# Altium schematic symbol library Resistors-PTH-250mW.SchLib: 10 symbols
Pins are listed as number, name and electrical type; pins without a type are passive.

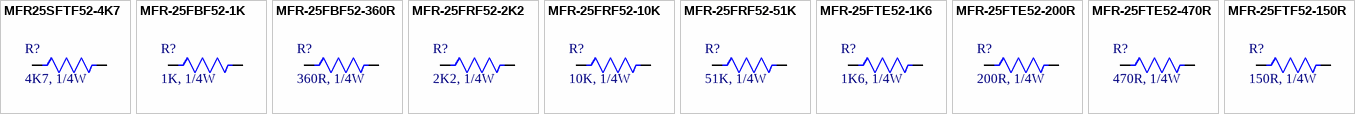
[diagram p0: symbols MFR25SFTF52-4K7 to MFR-25FTF52-150R]

## MFR25SFTF52-4K7
designator R?, comment 4K7, 1/4W
RES 4.7K OHM 1% 1/4W AXIAL; Manufacturer: Yageo; Manufacturer Part Number: MFR25SFTF52-4K7; Supplier: Digikey; Supplier Part Number: 13-MFR25SFTF52-4K7CT-ND; RoHS: Yes; Category: Through-Hole Resistors; Stock: 13558; Pricing: 1=0.1, 10=0.071, 25=0.052, 50=0.0402, 100=0.0273, 250=0.02244, 500=0.01784, 1000=0.01267 (USD); ComponentLink1URL: https://datasheet.ciiva.com:443/pdfs/VipMasterIC/IC/YAGO/YAGO-S-A0009358480/YAGO-S-A0009358480-1.pdf?src-supplier=IHS+Markit; ComponentLink1Description: https://datasheet.ciiva.com:443/pdfs/VipMasterIC/IC/YAGO/YAGO-S-A0009358480/YAGO-S-A0009358480-1.pdf?src-supplier=IHS+Markit; ComponentLink2URL: https://www.yageo.com/upload/media/product/products/datasheet/lr/Yageo_LR_MFR_1.pdf?src-supplier=Digikey; ComponentLink2Description: https://www.yageo.com/upload/media/product/products/datasheet/lr/Yageo_LR_MFR_1.pdf?src-supplier=Digikey; Value: 4k7
footprint RES-4K7-0W250
pins: 1, 2

## MFR-25FBF52-1K
designator R?, comment 1K, 1/4W
RES 1K OHM 1% 1/4W AXIAL; Manufacturer: Yageo; Manufacturer Part Number: MFR-25FBF52-1K; Power: 250mW; Value: 1kR; Temperature Coefficient: 100ppm/°C; Working Voltage: 250V; Rated Temperature: 70°C; Lead Diameter: 0.55mm; Lead Length: 28mm; Package Diameter: 2.4mm; Package Length: 6.3mm; Supplier: Digikey; Supplier Part Number: 1.00KXBK-ND; RoHS: Yes; Category: Through-Hole Resistors; Stock: 60605; Pricing: 1=0.1, 10=0.077, 25=0.056, 50=0.0436, 100=0.0296, 250=0.02428, 500=0.01928, 1000=0.01369, 5000=0.01058 (USD); Mounting Technology: Through Hole; Pins: 2; Package Shape: Tubular; Terminal Finish: Tin; Min Operating Temperature: -55°C; Max Operating Temperature: 155°C; Tolerance: 1%; JESD-609 Code: e3; Resistor Type: FIXED RESISTOR; Construction: Cylindrical; Package Style: AxialMeter; Packaging: Bulk; Technology: METAL FILM; Termination: Wire; Reach SVHC Compliant: Yes; RoHS Compliant: Yes; ComponentLink1URL: https://datasheet.ciiva.com:443/pdfs/VipMasterIC/IC/YAGO/YAGOS02704/YAGOS02704-1.pdf?src-supplier=IHS+Markit; ComponentLink1Description: https://datasheet.ciiva.com:443/pdfs/VipMasterIC/IC/YAGO/YAGOS02704/YAGOS02704-1.pdf?src-supplier=IHS+Markit; ComponentLink2URL: https://datasheet.ciiva.com/25646/yageolr-mfr-2013-25646206.pdf?src-supplier=Digikey; ComponentLink2Description: https://datasheet.ciiva.com/25646/yageolr-mfr-2013-25646206.pdf?src-supplier=Digikey
footprint RES-1K-0W250
pins: 1, 2

## MFR-25FBF52-360R
designator R?, comment 360R, 1/4W
RES 360 OHM 1% 1/4W AXIAL; Manufacturer: Yageo; Manufacturer Part Number: MFR-25FBF52-360R; Power: 250mW; Temperature Coefficient: -100100ppm/°C; Working Voltage: 250V; Lead Diameter: 0.55mm; Lead Length: 28mm; Package Diameter: 2.4mm; Package Length: 6.3mm; Supplier: DigiKey; Supplier Part Number: 13-MFR-25FBF52-360R-ND; Category: Through-Hole Resistors; Stock: 9990; Pricing: 1=0.1, 10=0.077, 25=0.056, 50=0.0436, 100=0.0296, 250=0.02428, 500=0.01928, 1000=0.01369, 5000=0.01058 (USD); Pins: 2; Package Shape: Cylindrical; Terminal Finish: Tin; Min Operating Temperature: -55°C; Max Operating Temperature: 155°C; Tolerance: 1%; JESD-609 Code: e3; Resistor Type: FIXED RESISTOR; Construction: Cylindrical; Package Style: AxialMeter; Packaging: Bulk; Value: 360R; Series: MFR; Technology: METAL FILM; Reach SVHC Compliant: Yes; RoHS Compliant: Yes; ComponentLink1URL: https://datasheet.ciiva.com:443/pdfs/VipMasterIC/IC/YAGO/YAGOS02172/YAGOS02172-1.pdf?src-supplier=IHS+Markit; ComponentLink1Description: https://datasheet.ciiva.com:443/pdfs/VipMasterIC/IC/YAGO/YAGOS02172/YAGOS02172-1.pdf?src-supplier=IHS+Markit; ComponentLink2URL: https://www.yageo.com/upload/media/product/products/datasheet/lr/Yageo_LR_MFR_1.pdf?src-supplier=Digikey; ComponentLink2Description: https://www.yageo.com/upload/media/product/products/datasheet/lr/Yageo_LR_MFR_1.pdf?src-supplier=Digikey; ComponentLink3URL: https://datasheet.octopart.com/MFR-25FBF52-360R-Yageo-datasheet-28066692.pdf; ComponentLink3Description: https://datasheet.octopart.com/MFR-25FBF52-360R-Yageo-datasheet-28066692.pdf
footprint RES-360R-0W250
pins: 1, 2

## MFR-25FRF52-2K2
designator R?, comment 2K2, 1/4W
RES 2.2K OHM 1% 1/4W AXIAL; Manufacturer: Yageo; Manufacturer Part Number: MFR-25FRF52-2K2; Supplier: Digikey; Supplier Part Number: 13-MFR-25FRF52-2K2CT-ND; RoHS: Yes; Category: Through-Hole Resistors; Stock: 174; Pricing: 1=0.1, 10=0.077, 25=0.056, 50=0.0436, 100=0.0296, 250=0.02428, 500=0.01928, 1000=0.01369 (USD); ComponentLink1URL: https://datasheet.ciiva.com:443/pdfs/VipMasterIC/IC/YAGO/YAGO-S-A0009358480/YAGO-S-A0009358480-1.pdf?src-supplier=IHS+Markit; ComponentLink1Description: https://datasheet.ciiva.com:443/pdfs/VipMasterIC/IC/YAGO/YAGO-S-A0009358480/YAGO-S-A0009358480-1.pdf?src-supplier=IHS+Markit; ComponentLink2URL: http://www.mouser.com/ds/2/447/Yageo%20LR_MFR_2013-467719.pdf?src-supplier=Mouser; ComponentLink2Description: http://www.mouser.com/ds/2/447/Yageo%20LR_MFR_2013-467719.pdf?src-supplier=Mouser; ComponentLink3URL: https://www.yageo.com/upload/media/product/products/datasheet/lr/Yageo_LR_MFR_1.pdf?src-supplier=Digikey; ComponentLink3Description: https://www.yageo.com/upload/media/product/products/datasheet/lr/Yageo_LR_MFR_1.pdf?src-supplier=Digikey; Value: 2k2
footprint RES-2K2-0W250
pins: 1, 2

## MFR-25FRF52-10K
designator R?, comment 10K, 1/4W
RES 10K OHM 1% 1/4W AXIAL; Manufacturer: Yageo; Manufacturer Part Number: MFR-25FRF52-10K; Power: 250mW; Rated Temperature: 70°C; Value: 10kR; Temperature Coefficient: 100ppm/°C; Working Voltage: 250V; Lead Diameter: 0.55mm; Lead Length: 28mm; Package Diameter: 2.4mm; Package Length: 6.3mm; Supplier: Digikey; Supplier Part Number: 13-MFR-25FRF52-10KCT-ND; RoHS: Yes; Category: Through-Hole Resistors; Stock: 93439; Pricing: 1=0.1, 10=0.077, 25=0.056, 50=0.0436, 100=0.0296, 250=0.02428, 500=0.01928, 1000=0.01369 (USD); Mounting Technology: Through Hole; Pins: 2; Package Shape: Tubular; Terminal Finish: Tin; Min Operating Temperature: -55°C; Max Operating Temperature: 155°C; Tolerance: 1%; JESD-609 Code: e3; Resistor Type: FIXED RESISTOR; Construction: Cylindrical; Package Style: AxialMeter; Packaging: Tape and Reel; Technology: METAL FILM; Termination: Wire; Reach SVHC Compliant: Yes; RoHS Compliant: Yes; ComponentLink1URL: https://datasheet.ciiva.com:443/pdfs/VipMasterIC/IC/YAGO/YAGO-S-A0009358480/YAGO-S-A0009358480-1.pdf?src-supplier=IHS+Markit; ComponentLink1Description: https://datasheet.ciiva.com:443/pdfs/VipMasterIC/IC/YAGO/YAGO-S-A0009358480/YAGO-S-A0009358480-1.pdf?src-supplier=IHS+Markit; ComponentLink2URL: https://datasheet.ciiva.com/25645/yageolr-mfr-2013-25645549.pdf?src-supplier=Digikey; ComponentLink2Description: https://datasheet.ciiva.com/25645/yageolr-mfr-2013-25645549.pdf?src-supplier=Digikey
footprint RES-10K-0W250
pins: 1, 2

## MFR-25FRF52-51K
designator R?, comment 51K, 1/4W
RES 51K OHM 1% 1/4W AXIAL; Manufacturer: Yageo; Manufacturer Part Number: MFR-25FRF52-51K; Supplier: Digikey; Supplier Part Number: 13-MFR-25FRF52-51KCT-ND; RoHS: Yes; Category: Through-Hole Resistors; Stock: 92900; Pricing: 1=0.1, 10=0.077, 25=0.056, 50=0.0436, 100=0.0296, 250=0.02428, 500=0.01928, 1000=0.01369 (USD); ComponentLink1URL: https://datasheet.ciiva.com:443/pdfs/VipMasterIC/IC/YAGO/YAGO-S-A0009358480/YAGO-S-A0009358480-1.pdf?src-supplier=IHS+Markit; ComponentLink1Description: https://datasheet.ciiva.com:443/pdfs/VipMasterIC/IC/YAGO/YAGO-S-A0009358480/YAGO-S-A0009358480-1.pdf?src-supplier=IHS+Markit; ComponentLink2URL: http://www.mouser.com/ds/2/447/Yageo%20LR_MFR_2013-467719.pdf?src-supplier=Mouser; ComponentLink2Description: http://www.mouser.com/ds/2/447/Yageo%20LR_MFR_2013-467719.pdf?src-supplier=Mouser; ComponentLink3URL: https://www.yageo.com/upload/media/product/products/datasheet/lr/Yageo_LR_MFR_1.pdf?src-supplier=Digikey; ComponentLink3Description: https://www.yageo.com/upload/media/product/products/datasheet/lr/Yageo_LR_MFR_1.pdf?src-supplier=Digikey; Value: 51k
footprint RES-51K-0W250
pins: 1, 2

## MFR-25FTE52-1K6
designator R?, comment 1K6, 1/4W
RES 1.6K OHM 1% 1/4W AXIAL; Manufacturer: Yageo; Manufacturer Part Number: MFR-25FTE52-1K6; Supplier: Digikey; Supplier Part Number: 13-MFR-25FTE52-1K6CT-ND; RoHS: Yes; Category: Through-Hole Resistors; Stock: 18009; Pricing: 1=0.1, 10=0.073, 25=0.0528, 50=0.0412, 100=0.0279, 250=0.02292, 500=0.01822, 1000=0.01293 (USD); ComponentLink1URL: https://datasheet.ciiva.com:443/pdfs/VipMasterIC/IC/YAGO/YAGO-S-A0009358480/YAGO-S-A0009358480-1.pdf?src-supplier=IHS+Markit; ComponentLink1Description: https://datasheet.ciiva.com:443/pdfs/VipMasterIC/IC/YAGO/YAGO-S-A0009358480/YAGO-S-A0009358480-1.pdf?src-supplier=IHS+Markit; ComponentLink2URL: http://www.mouser.com/ds/2/447/Yageo%20LR_MFR_2013-467719.pdf?src-supplier=Mouser; ComponentLink2Description: http://www.mouser.com/ds/2/447/Yageo%20LR_MFR_2013-467719.pdf?src-supplier=Mouser; ComponentLink3URL: https://www.yageo.com/upload/media/product/products/datasheet/lr/Yageo_LR_MFR_1.pdf?src-supplier=Digikey; ComponentLink3Description: https://www.yageo.com/upload/media/product/products/datasheet/lr/Yageo_LR_MFR_1.pdf?src-supplier=Digikey; Value: 1k6
footprint RES-1K6-0W250
pins: 1, 2

## MFR-25FTE52-200R
designator R?, comment 200R, 1/4W
RES 200 OHM 1% 1/4W AXIAL; Manufacturer: Yageo; Manufacturer Part Number: MFR-25FTE52-200R; Supplier: Digikey; Supplier Part Number: 13-MFR-25FTE52-200RCT-ND; RoHS: Yes; Category: Through-Hole Resistors; Stock: 9002; Pricing: 1=0.1, 10=0.073, 25=0.0528, 50=0.0412, 100=0.0279, 250=0.02292, 500=0.01822, 1000=0.01293 (USD); ComponentLink1URL: https://datasheet.ciiva.com:443/pdfs/VipMasterIC/IC/YAGO/YAGO-S-A0009358480/YAGO-S-A0009358480-1.pdf?src-supplier=IHS+Markit; ComponentLink1Description: https://datasheet.ciiva.com:443/pdfs/VipMasterIC/IC/YAGO/YAGO-S-A0009358480/YAGO-S-A0009358480-1.pdf?src-supplier=IHS+Markit; ComponentLink2URL: http://www.mouser.com/ds/2/447/Yageo%20LR_MFR_2013-467719.pdf?src-supplier=Mouser; ComponentLink2Description: http://www.mouser.com/ds/2/447/Yageo%20LR_MFR_2013-467719.pdf?src-supplier=Mouser; ComponentLink3URL: https://www.yageo.com/upload/media/product/products/datasheet/lr/Yageo_LR_MFR_1.pdf?src-supplier=Digikey; ComponentLink3Description: https://www.yageo.com/upload/media/product/products/datasheet/lr/Yageo_LR_MFR_1.pdf?src-supplier=Digikey; Value: 200R
footprint RES-200R-0W250
pins: 1, 2

## MFR-25FTE52-470R
designator R?, comment 470R, 1/4W
RES 470 OHM 1% 1/4W AXIAL; Manufacturer: Yageo; Manufacturer Part Number: MFR-25FTE52-470R; Power: 250mW; Rated Temperature: 70°C; Temperature Coefficient: 50ppm/°C; Working Voltage: 250V; Lead Diameter: 0.55mm; Lead Length: 28mm; Package Diameter: 2.4mm; Package Length: 6.3mm; Supplier: Digikey; Supplier Part Number: 13-MFR-25FTE52-470RCT-ND; RoHS: Yes; Category: Through-Hole Resistors; Stock: 24507; Pricing: 1=0.1, 10=0.073, 25=0.0528, 50=0.0412, 100=0.0279, 250=0.02292, 500=0.01822, 1000=0.01293 (USD); Mounting Technology: Through Hole; Pins: 2; Package Shape: Tubular; Terminal Finish: Tin; Min Operating Temperature: -55°C; Max Operating Temperature: 155°C; Tolerance: 1%; JESD-609 Code: e3; Resistor Type: FIXED RESISTOR; Construction: Cylindrical; Package Style: AxialMeter; Packaging: Ammo Pack; Value: 470R; Technology: METAL FILM; Termination: Wire; Reach SVHC Compliant: Yes; RoHS Compliant: Yes; ComponentLink1URL: https://datasheet.ciiva.com:443/pdfs/VipMasterIC/IC/YAGO/YAGO-S-A0009358480/YAGO-S-A0009358480-1.pdf?src-supplier=IHS+Markit; ComponentLink1Description: https://datasheet.ciiva.com:443/pdfs/VipMasterIC/IC/YAGO/YAGO-S-A0009358480/YAGO-S-A0009358480-1.pdf?src-supplier=IHS+Markit; ComponentLink2URL: http://www.mouser.com/ds/2/447/Yageo%20LR_MFR_2013-467719.pdf?src-supplier=Mouser; ComponentLink2Description: http://www.mouser.com/ds/2/447/Yageo%20LR_MFR_2013-467719.pdf?src-supplier=Mouser; ComponentLink3URL: https://www.yageo.com/upload/media/product/products/datasheet/lr/Yageo_LR_MFR_1.pdf?src-supplier=Digikey; ComponentLink3Description: https://www.yageo.com/upload/media/product/products/datasheet/lr/Yageo_LR_MFR_1.pdf?src-supplier=Digikey; ComponentLink4URL: https://datasheet.octopart.com/MFR-25FTE52-470R-Yageo-datasheet-175665672.pdf?src-supplier=Element14; ComponentLink4Description: https://datasheet.octopart.com/MFR-25FTE52-470R-Yageo-datasheet-175665672.pdf?src-supplier=Element14
footprint RES-470R-0W250
pins: 1, 2

## MFR-25FTF52-150R
designator R?, comment 150R, 1/4W
RES 150 OHM 1% 1/4W AXIAL; Manufacturer: Yageo; Manufacturer Part Number: MFR-25FTF52-150R; Supplier: Digikey; Supplier Part Number: 13-MFR-25FTF52-150RCT-ND; RoHS: No; Category: Through-Hole Resistors; Stock: 22228; Pricing: 1=0.1, 10=0.073, 25=0.0528, 50=0.0412, 100=0.0279, 250=0.02292, 500=0.01822, 1000=0.01293 (USD); ComponentLink1URL: https://www.yageo.com/upload/media/product/products/datasheet/lr/Yageo_LR_MFR_1.pdf?src-supplier=Digikey; ComponentLink1Description: https://www.yageo.com/upload/media/product/products/datasheet/lr/Yageo_LR_MFR_1.pdf?src-supplier=Digikey; Value: 150R
footprint RES-150R-0W250
pins: 1, 2